# Altium schematic symbol library SCH - POWER - SWITCHMODE - TI TPS56C20PWP.SchLib: 1 symbol
Pins are listed as number, name and electrical type; pins without a type are passive.

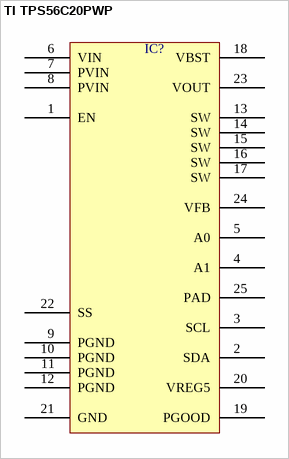
[diagram p0: symbol TI TPS56C20PWP]

## TI TPS56C20PWP
designator IC?  (value not drawn)
pins: 1 EN, 2 SDA, 3 SCL, 4 A1, 5 A0, 6 VIN, 7 PVIN, 8 PVIN, 9 PGND, 10 PGND, 11 PGND, 12 PGND, 13 SW, 14 SW, 15 SW, 16 SW, 17 SW, 18 VBST, 19 PGOOD, 20 VREG5, 21 GND, 22 SS, 23 VOUT, 24 VFB, 25 PAD